# EAGLE library part STF202 (library bacon)
The STF202 is a combination EMI filter and line termination device with integrated TVS diodes for use on upstream USB ports. Digikey Part #STF202-22T1GOSCT-ND
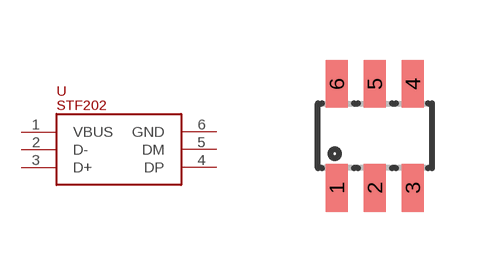
[diagram p0: symbol with the pads of SOT23-6L; footprint SOT23-6L]

Designator prefix -

## STF202  [SOT23-6L]
1  VBUS  pwr
2  D-
3  D+
4  DP
5  DM
6  GND  pwr

## Footprint SOT23-6L (pad centres in mm)
Small Outline Transistor
smd 0.55 x 1.2: 1 -0.95,-1.3; 2 0,-1.3; 3 0.95,-1.3; 4 0.95,1.3; 5 0,1.3; 6 -0.95,1.3